# Altium integrated library NSC Switcher.IntLib: 2027 symbols (part 31 of 54)
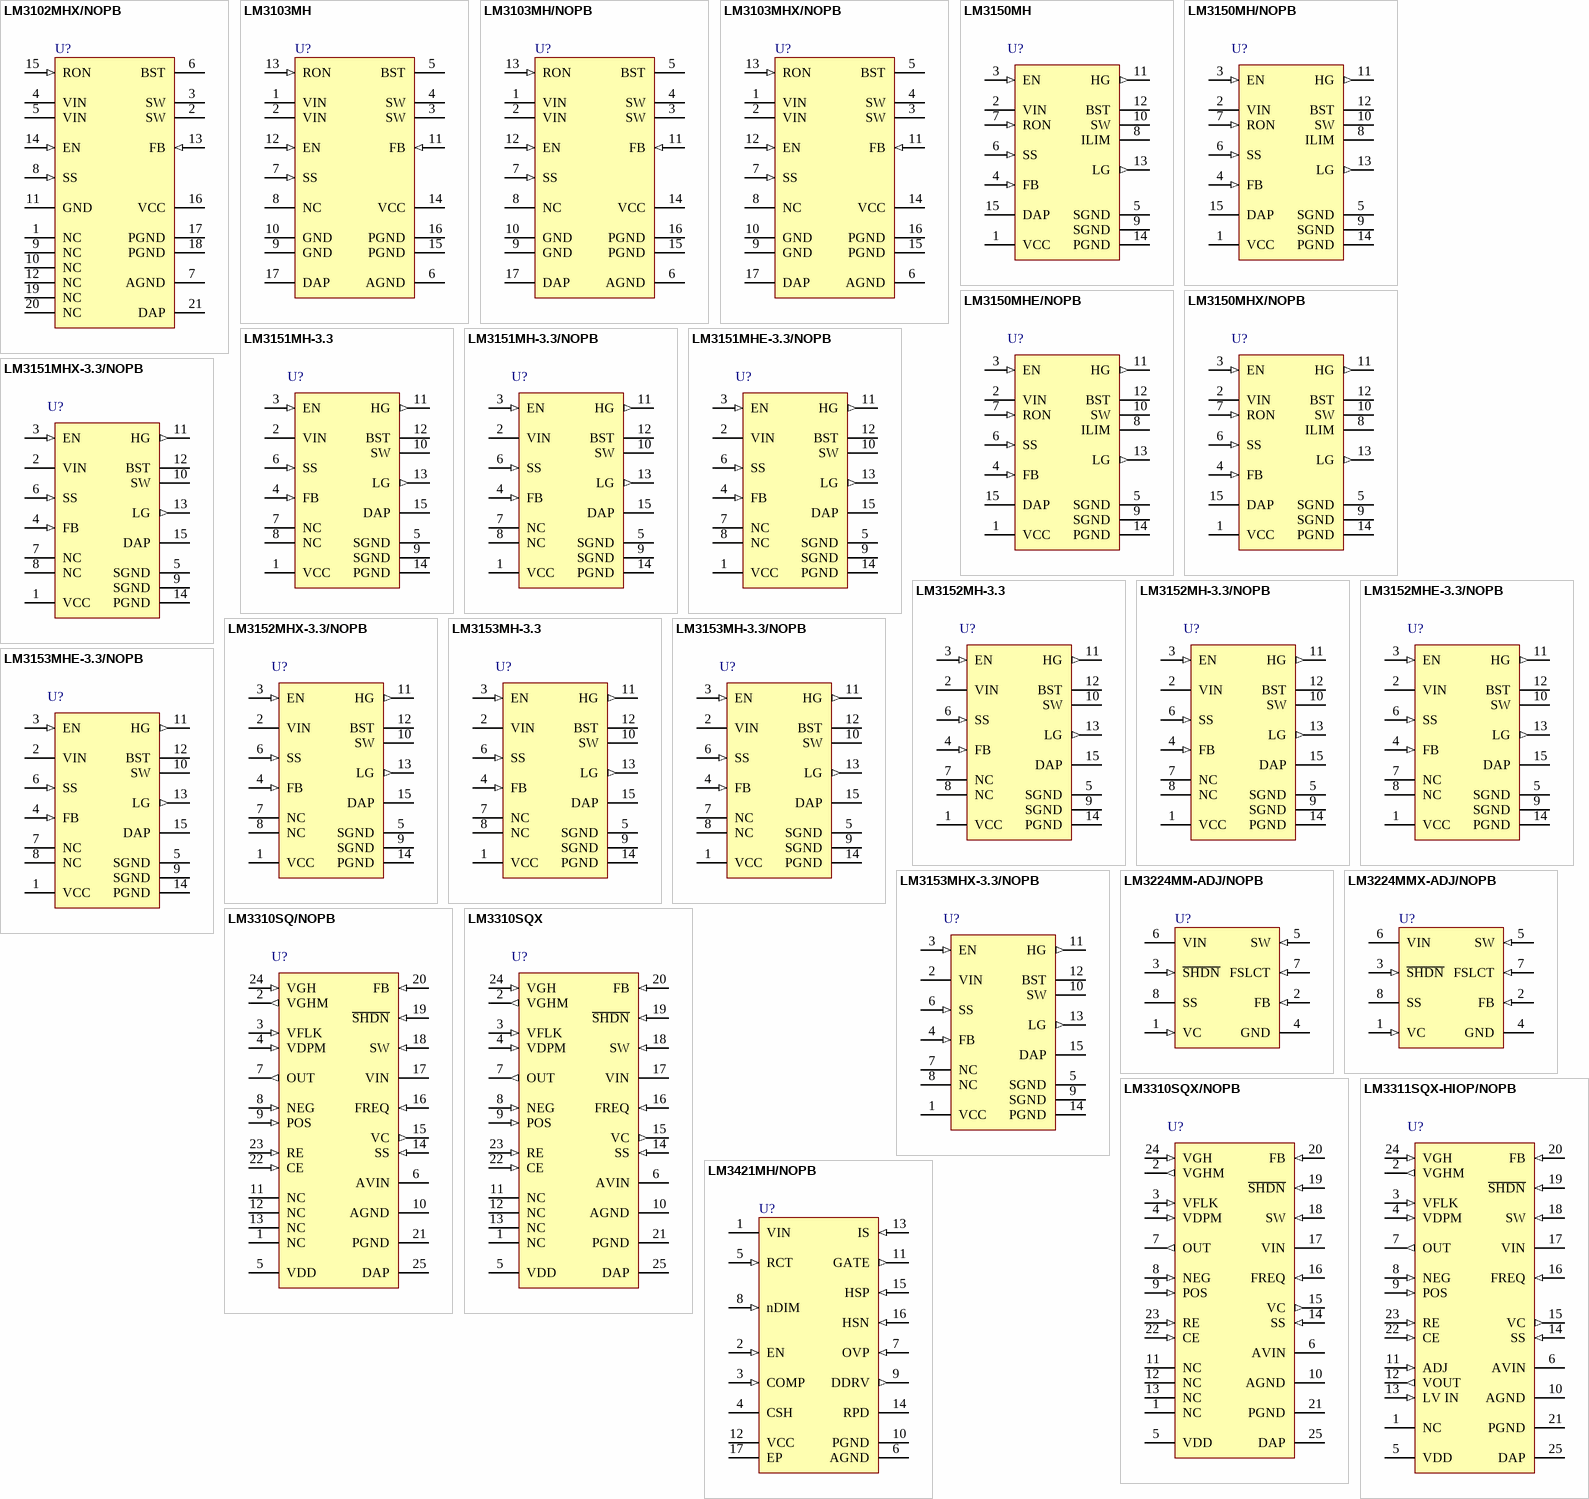
[diagram p93: symbols LM3102MHX/NOPB to LM3421MH/NOPB]

## LM3150MHE/NOPB
designator U?
SIMPLE SWITCHER® CONTROLLER, 42V Synchronous Step-Down, 14-pin TSSOP-EP, Pb-Free; PartNumber: LM3150MHE/NOPB; Manufacturer: National Semiconductor; PackageTopMarking: NSUZXYTT*LM3150*MH; PowerWise: Y; Published: 1-Mar-2010; DatasheetVersion: Oct-2008; PackageVersion: revA, Feb-2003; PackageReference: MXA14A; Publisher: Altium Limited; PackageDescription: Molded TSSOP, JEDEC, Exposed Pad, 5.0 x 4.4 x 0.9mm Body, 14 Lead, 0.65mm Pitch; Supplier 1: Digi-Key; Supplier Part Number 1: LM3150MHETR-ND; Supplier 2: Digi-Key; Supplier Part Number 2: LM3150MHECT-ND; Supplier 3: Digi-Key; Supplier Part Number 3: LM3150MHEDKR-ND; Supplier 4: Farnell; Supplier Part Number 4: 1670579; RoHS: Y; PinCount: 14; CompType: Switcher; Code_JEDEC: MO-153-ABT-1; ComponentLink1Description: LM3150 Datasheet; ComponentLink1URL: http://www.national.com/ds/LM/LM3150.pdf; ComponentLink2Description: LM3150 Web Page; ComponentLink2URL: http://www.national.com/pf/LM/LM3150.html; ComponentLink3Description: MXA14A Package Page; ComponentLink3URL: http://www.national.com/packaging/folders/mxa14a.html
footprint MXA14A_N (TSOP, 14-Leads, Body 5x4.4mm, Pitch 0.65mm, Exposed Pad, IPC Medium Density)
footprint MXA14A_L (TSOP, 14-Leads, Body 5x4.4mm, Pitch 0.65mm, Exposed Pad, IPC High Density)
footprint MXA14A_M (TSOP, 14-Leads, Body 5x4.4mm, Pitch 0.65mm, Exposed Pad, IPC Low Density)
pins: 1 VCC (power), 2 VIN (power), 3 EN (in), 4 FB (in), 5 SGND (power), 6 SS (in), 7 RON (in), 8 ILIM, 9 SGND (power), 10 SW (power), 11 HG (out), 12 BST, 13 LG (out), 14 PGND (power), 15 DAP (power)

## LM3150MHX/NOPB
designator U?
SIMPLE SWITCHER® CONTROLLER, 42V Synchronous Step-Down, 14-pin TSSOP-EP, Pb-Free; PartNumber: LM3150MHX/NOPB; Manufacturer: National Semiconductor; PackageTopMarking: NSUZXYTT*LM3150*MH; PowerWise: Y; Published: 1-Mar-2010; DatasheetVersion: Oct-2008; PackageVersion: revA, Feb-2003; PackageReference: MXA14A; Publisher: Altium Limited; PackageDescription: Molded TSSOP, JEDEC, Exposed Pad, 5.0 x 4.4 x 0.9mm Body, 14 Lead, 0.65mm Pitch; Supplier 1: Digi-Key; Supplier Part Number 1: LM3150MHX-ND; RoHS: Y; PinCount: 14; CompType: Switcher; Code_JEDEC: MO-153-ABT-1; ComponentLink1Description: LM3150 Datasheet; ComponentLink1URL: http://www.national.com/ds/LM/LM3150.pdf; ComponentLink2Description: LM3150 Web Page; ComponentLink2URL: http://www.national.com/pf/LM/LM3150.html; ComponentLink3Description: MXA14A Package Page; ComponentLink3URL: http://www.national.com/packaging/folders/mxa14a.html
footprint MXA14A_N (TSOP, 14-Leads, Body 5x4.4mm, Pitch 0.65mm, Exposed Pad, IPC Medium Density)
footprint MXA14A_L (TSOP, 14-Leads, Body 5x4.4mm, Pitch 0.65mm, Exposed Pad, IPC High Density)
footprint MXA14A_M (TSOP, 14-Leads, Body 5x4.4mm, Pitch 0.65mm, Exposed Pad, IPC Low Density)
pins: 1 VCC (power), 2 VIN (power), 3 EN (in), 4 FB (in), 5 SGND (power), 6 SS (in), 7 RON (in), 8 ILIM, 9 SGND (power), 10 SW (power), 11 HG (out), 12 BST, 13 LG (out), 14 PGND (power), 15 DAP (power)

## LM3151MH-3.3
designator U?
SIMPLE SWITCHER® CONTROLLER, 42V Synchronous Step-Down, 14-pin TSSOP-EP; PartNumber: LM3151MH-3.3; Manufacturer: National Semiconductor; PackageTopMarking: NSUZXYTT*LM3151*-3.3; PowerWise: Y; Published: 4-Dec-2008; DatasheetVersion: Oct-2008; PackageVersion: revA, Feb-2003; PackageReference: MXA14A; Publisher: Altium Limited; PackageDescription: Molded TSSOP, JEDEC, Exposed Pad, 5.0 x 4.4 x 0.9mm Body, 14 Lead, 0.65mm Pitch; RoHS: Y; PinCount: 14; CompType: Switcher; Code_JEDEC: MO-153-ABT-1; ComponentLink1Description: LM3151 Datasheet; ComponentLink1URL: http://www.national.com/ds/LM/LM3151.pdf; ComponentLink2Description: LM3151 Web Page; ComponentLink2URL: http://www.national.com/pf/LM/LM3151.html; ComponentLink3Description: MXA14A Package Page; ComponentLink3URL: http://www.national.com/packaging/folders/mxa14a.html
footprint MXA14A_N (TSOP, 14-Leads, Body 5x4.4mm, Pitch 0.65mm, Exposed Pad, IPC Medium Density)
footprint MXA14A_L (TSOP, 14-Leads, Body 5x4.4mm, Pitch 0.65mm, Exposed Pad, IPC High Density)
footprint MXA14A_M (TSOP, 14-Leads, Body 5x4.4mm, Pitch 0.65mm, Exposed Pad, IPC Low Density)
pins: 1 VCC (power), 2 VIN (power), 3 EN (in), 4 FB (in), 5 SGND (power), 6 SS (in), 7 NC, 8 NC, 9 SGND (power), 10 SW (power), 11 HG (out), 12 BST, 13 LG (out), 14 PGND (power), 15 DAP (power)

## LM3151MH-3.3/NOPB
designator U?
SIMPLE SWITCHER® CONTROLLER, 42V Synchronous Step-Down, 14-pin TSSOP-EP, Pb-Free; PartNumber: LM3151MH-3.3/NOPB; Manufacturer: National Semiconductor; PackageTopMarking: NSUZXYTT*LM3151*-3.3; PowerWise: Y; Published: 1-Mar-2010; DatasheetVersion: Oct-2008; PackageVersion: revA, Feb-2003; PackageReference: MXA14A; Publisher: Altium Limited; PackageDescription: Molded TSSOP, JEDEC, Exposed Pad, 5.0 x 4.4 x 0.9mm Body, 14 Lead, 0.65mm Pitch; Supplier 1: Digi-Key; Supplier Part Number 1: LM3151MH-3.3-ND; RoHS: Y; PinCount: 14; CompType: Switcher; Code_JEDEC: MO-153-ABT-1; ComponentLink1Description: LM3151 Datasheet; ComponentLink1URL: http://www.national.com/ds/LM/LM3151.pdf; ComponentLink2Description: LM3151 Web Page; ComponentLink2URL: http://www.national.com/pf/LM/LM3151.html; ComponentLink3Description: MXA14A Package Page; ComponentLink3URL: http://www.national.com/packaging/folders/mxa14a.html
footprint MXA14A_N (TSOP, 14-Leads, Body 5x4.4mm, Pitch 0.65mm, Exposed Pad, IPC Medium Density)
footprint MXA14A_L (TSOP, 14-Leads, Body 5x4.4mm, Pitch 0.65mm, Exposed Pad, IPC High Density)
footprint MXA14A_M (TSOP, 14-Leads, Body 5x4.4mm, Pitch 0.65mm, Exposed Pad, IPC Low Density)
pins: 1 VCC (power), 2 VIN (power), 3 EN (in), 4 FB (in), 5 SGND (power), 6 SS (in), 7 NC, 8 NC, 9 SGND (power), 10 SW (power), 11 HG (out), 12 BST, 13 LG (out), 14 PGND (power), 15 DAP (power)

## LM3151MHE-3.3/NOPB
designator U?
SIMPLE SWITCHER® CONTROLLER, 42V Synchronous Step-Down, 14-pin TSSOP-EP, Pb-Free; PartNumber: LM3151MHE-3.3/NOPB; Manufacturer: National Semiconductor; PackageTopMarking: NSUZXYTT*LM3151*-3.3; PowerWise: Y; Published: 1-Mar-2010; DatasheetVersion: Oct-2008; PackageVersion: revA, Feb-2003; PackageReference: MXA14A; Publisher: Altium Limited; PackageDescription: Molded TSSOP, JEDEC, Exposed Pad, 5.0 x 4.4 x 0.9mm Body, 14 Lead, 0.65mm Pitch; Supplier 1: Digi-Key; Supplier Part Number 1: LM3151MHE-3.3TR-ND; Supplier 2: Digi-Key; Supplier Part Number 2: LM3151MHE-3.3CT-ND; Supplier 3: Digi-Key; Supplier Part Number 3: LM3151MHE-3.3DKR-ND; Supplier 4: Farnell; Supplier Part Number 4: 1670581; RoHS: Y; PinCount: 14; CompType: Switcher; Code_JEDEC: MO-153-ABT-1; ComponentLink1Description: LM3151 Datasheet; ComponentLink1URL: http://www.national.com/ds/LM/LM3151.pdf; ComponentLink2Description: LM3151 Web Page; ComponentLink2URL: http://www.national.com/pf/LM/LM3151.html; ComponentLink3Description: MXA14A Package Page; ComponentLink3URL: http://www.national.com/packaging/folders/mxa14a.html
footprint MXA14A_N (TSOP, 14-Leads, Body 5x4.4mm, Pitch 0.65mm, Exposed Pad, IPC Medium Density)
footprint MXA14A_L (TSOP, 14-Leads, Body 5x4.4mm, Pitch 0.65mm, Exposed Pad, IPC High Density)
footprint MXA14A_M (TSOP, 14-Leads, Body 5x4.4mm, Pitch 0.65mm, Exposed Pad, IPC Low Density)
pins: 1 VCC (power), 2 VIN (power), 3 EN (in), 4 FB (in), 5 SGND (power), 6 SS (in), 7 NC, 8 NC, 9 SGND (power), 10 SW (power), 11 HG (out), 12 BST, 13 LG (out), 14 PGND (power), 15 DAP (power)

## LM3151MHX-3.3/NOPB
designator U?
SIMPLE SWITCHER® CONTROLLER, 42V Synchronous Step-Down, 14-pin TSSOP-EP, Pb-Free; PartNumber: LM3151MHX-3.3/NOPB; Manufacturer: National Semiconductor; PackageTopMarking: NSUZXYTT*LM3151*-3.3; PowerWise: Y; Published: 1-Mar-2010; DatasheetVersion: Oct-2008; PackageVersion: revA, Feb-2003; PackageReference: MXA14A; Publisher: Altium Limited; PackageDescription: Molded TSSOP, JEDEC, Exposed Pad, 5.0 x 4.4 x 0.9mm Body, 14 Lead, 0.65mm Pitch; Supplier 1: Digi-Key; Supplier Part Number 1: LM3151MHX-3.3-ND; RoHS: Y; PinCount: 14; CompType: Switcher; Code_JEDEC: MO-153-ABT-1; ComponentLink1Description: LM3151 Datasheet; ComponentLink1URL: http://www.national.com/ds/LM/LM3151.pdf; ComponentLink2Description: LM3151 Web Page; ComponentLink2URL: http://www.national.com/pf/LM/LM3151.html; ComponentLink3Description: MXA14A Package Page; ComponentLink3URL: http://www.national.com/packaging/folders/mxa14a.html
footprint MXA14A_N (TSOP, 14-Leads, Body 5x4.4mm, Pitch 0.65mm, Exposed Pad, IPC Medium Density)
footprint MXA14A_L (TSOP, 14-Leads, Body 5x4.4mm, Pitch 0.65mm, Exposed Pad, IPC High Density)
footprint MXA14A_M (TSOP, 14-Leads, Body 5x4.4mm, Pitch 0.65mm, Exposed Pad, IPC Low Density)
pins: 1 VCC (power), 2 VIN (power), 3 EN (in), 4 FB (in), 5 SGND (power), 6 SS (in), 7 NC, 8 NC, 9 SGND (power), 10 SW (power), 11 HG (out), 12 BST, 13 LG (out), 14 PGND (power), 15 DAP (power)

## LM3152MH-3.3
designator U?
SIMPLE SWITCHER® CONTROLLER, 42V Synchronous Step-Down, 14-pin TSSOP-EP; PartNumber: LM3152MH-3.3; Manufacturer: National Semiconductor; PackageTopMarking: NSUZXYTT*LM3152*-3.3; PowerWise: Y; Published: 4-Dec-2008; DatasheetVersion: Oct-2008; PackageVersion: revA, Feb-2003; PackageReference: MXA14A; Publisher: Altium Limited; PackageDescription: Molded TSSOP, JEDEC, Exposed Pad, 5.0 x 4.4 x 0.9mm Body, 14 Lead, 0.65mm Pitch; RoHS: Y; PinCount: 14; CompType: Switcher; Code_JEDEC: MO-153-ABT-1; ComponentLink1Description: LM3152 Datasheet; ComponentLink1URL: http://www.national.com/ds/LM/LM3152.pdf; ComponentLink2Description: LM3152 Web Page; ComponentLink2URL: http://www.national.com/pf/LM/LM3152.html; ComponentLink3Description: MXA14A Package Page; ComponentLink3URL: http://www.national.com/packaging/folders/mxa14a.html
footprint MXA14A_N (TSOP, 14-Leads, Body 5x4.4mm, Pitch 0.65mm, Exposed Pad, IPC Medium Density)
footprint MXA14A_L (TSOP, 14-Leads, Body 5x4.4mm, Pitch 0.65mm, Exposed Pad, IPC High Density)
footprint MXA14A_M (TSOP, 14-Leads, Body 5x4.4mm, Pitch 0.65mm, Exposed Pad, IPC Low Density)
pins: 1 VCC (power), 2 VIN (power), 3 EN (in), 4 FB (in), 5 SGND (power), 6 SS (in), 7 NC, 8 NC, 9 SGND (power), 10 SW (power), 11 HG (out), 12 BST, 13 LG (out), 14 PGND (power), 15 DAP (power)

## LM3152MH-3.3/NOPB
designator U?
SIMPLE SWITCHER® CONTROLLER, 42V Synchronous Step-Down, 14-pin TSSOP-EP, Pb-Free; PartNumber: LM3152MH-3.3/NOPB; Manufacturer: National Semiconductor; PackageTopMarking: NSUZXYTT*LM3152*-3.3; PowerWise: Y; Published: 1-Mar-2010; DatasheetVersion: Oct-2008; PackageVersion: revA, Feb-2003; PackageReference: MXA14A; Publisher: Altium Limited; PackageDescription: Molded TSSOP, JEDEC, Exposed Pad, 5.0 x 4.4 x 0.9mm Body, 14 Lead, 0.65mm Pitch; Supplier 1: Digi-Key; Supplier Part Number 1: LM3152MH-3.3-ND; RoHS: Y; PinCount: 14; CompType: Switcher; Code_JEDEC: MO-153-ABT-1; ComponentLink1Description: LM3152 Datasheet; ComponentLink1URL: http://www.national.com/ds/LM/LM3152.pdf; ComponentLink2Description: LM3152 Web Page; ComponentLink2URL: http://www.national.com/pf/LM/LM3152.html; ComponentLink3Description: MXA14A Package Page; ComponentLink3URL: http://www.national.com/packaging/folders/mxa14a.html
footprint MXA14A_N (TSOP, 14-Leads, Body 5x4.4mm, Pitch 0.65mm, Exposed Pad, IPC Medium Density)
footprint MXA14A_L (TSOP, 14-Leads, Body 5x4.4mm, Pitch 0.65mm, Exposed Pad, IPC High Density)
footprint MXA14A_M (TSOP, 14-Leads, Body 5x4.4mm, Pitch 0.65mm, Exposed Pad, IPC Low Density)
pins: 1 VCC (power), 2 VIN (power), 3 EN (in), 4 FB (in), 5 SGND (power), 6 SS (in), 7 NC, 8 NC, 9 SGND (power), 10 SW (power), 11 HG (out), 12 BST, 13 LG (out), 14 PGND (power), 15 DAP (power)

## LM3152MHE-3.3/NOPB
designator U?
SIMPLE SWITCHER® CONTROLLER, 42V Synchronous Step-Down, 14-pin TSSOP-EP, Pb-Free; PartNumber: LM3152MHE-3.3/NOPB; Manufacturer: National Semiconductor; PackageTopMarking: NSUZXYTT*LM3152*-3.3; PowerWise: Y; Published: 1-Mar-2010; DatasheetVersion: Oct-2008; PackageVersion: revA, Feb-2003; PackageReference: MXA14A; Publisher: Altium Limited; PackageDescription: Molded TSSOP, JEDEC, Exposed Pad, 5.0 x 4.4 x 0.9mm Body, 14 Lead, 0.65mm Pitch; Supplier 1: Digi-Key; Supplier Part Number 1: LM3152MHE-3.3TR-ND; Supplier 2: Digi-Key; Supplier Part Number 2: LM3152MHE-3.3CT-ND; Supplier 3: Digi-Key; Supplier Part Number 3: LM3152MHE-3.3DKR-ND; Supplier 4: Farnell; Supplier Part Number 4: 1670582; RoHS: Y; PinCount: 14; CompType: Switcher; Code_JEDEC: MO-153-ABT-1; ComponentLink1Description: LM3152 Datasheet; ComponentLink1URL: http://www.national.com/ds/LM/LM3152.pdf; ComponentLink2Description: LM3152 Web Page; ComponentLink2URL: http://www.national.com/pf/LM/LM3152.html; ComponentLink3Description: MXA14A Package Page; ComponentLink3URL: http://www.national.com/packaging/folders/mxa14a.html
footprint MXA14A_N (TSOP, 14-Leads, Body 5x4.4mm, Pitch 0.65mm, Exposed Pad, IPC Medium Density)
footprint MXA14A_L (TSOP, 14-Leads, Body 5x4.4mm, Pitch 0.65mm, Exposed Pad, IPC High Density)
footprint MXA14A_M (TSOP, 14-Leads, Body 5x4.4mm, Pitch 0.65mm, Exposed Pad, IPC Low Density)
pins: 1 VCC (power), 2 VIN (power), 3 EN (in), 4 FB (in), 5 SGND (power), 6 SS (in), 7 NC, 8 NC, 9 SGND (power), 10 SW (power), 11 HG (out), 12 BST, 13 LG (out), 14 PGND (power), 15 DAP (power)

## LM3152MHX-3.3/NOPB
designator U?
SIMPLE SWITCHER® CONTROLLER, 42V Synchronous Step-Down, 14-pin TSSOP-EP, Pb-Free; PartNumber: LM3152MHX-3.3/NOPB; Manufacturer: National Semiconductor; PackageTopMarking: NSUZXYTT*LM3152*-3.3; PowerWise: Y; Published: 1-Mar-2010; DatasheetVersion: Oct-2008; PackageVersion: revA, Feb-2003; PackageReference: MXA14A; Publisher: Altium Limited; PackageDescription: Molded TSSOP, JEDEC, Exposed Pad, 5.0 x 4.4 x 0.9mm Body, 14 Lead, 0.65mm Pitch; Supplier 1: Digi-Key; Supplier Part Number 1: LM3152MHX-3.3-ND; RoHS: Y; PinCount: 14; CompType: Switcher; Code_JEDEC: MO-153-ABT-1; ComponentLink1Description: LM3152 Datasheet; ComponentLink1URL: http://www.national.com/ds/LM/LM3152.pdf; ComponentLink2Description: LM3152 Web Page; ComponentLink2URL: http://www.national.com/pf/LM/LM3152.html; ComponentLink3Description: MXA14A Package Page; ComponentLink3URL: http://www.national.com/packaging/folders/mxa14a.html
footprint MXA14A_N (TSOP, 14-Leads, Body 5x4.4mm, Pitch 0.65mm, Exposed Pad, IPC Medium Density)
footprint MXA14A_L (TSOP, 14-Leads, Body 5x4.4mm, Pitch 0.65mm, Exposed Pad, IPC High Density)
footprint MXA14A_M (TSOP, 14-Leads, Body 5x4.4mm, Pitch 0.65mm, Exposed Pad, IPC Low Density)
pins: 1 VCC (power), 2 VIN (power), 3 EN (in), 4 FB (in), 5 SGND (power), 6 SS (in), 7 NC, 8 NC, 9 SGND (power), 10 SW (power), 11 HG (out), 12 BST, 13 LG (out), 14 PGND (power), 15 DAP (power)

## LM3153MH-3.3
designator U?
SIMPLE SWITCHER® CONTROLLER, 42V Synchronous Step-Down, 14-pin TSSOP-EP; PartNumber: LM3153MH-3.3; Manufacturer: National Semiconductor; PackageTopMarking: NSUZXYTT*LM3153*-3.3; PowerWise: Y; Published: 4-Dec-2008; DatasheetVersion: Oct-2008; PackageVersion: revA, Feb-2003; PackageReference: MXA14A; Publisher: Altium Limited; PackageDescription: Molded TSSOP, JEDEC, Exposed Pad, 5.0 x 4.4 x 0.9mm Body, 14 Lead, 0.65mm Pitch; RoHS: Y; PinCount: 14; CompType: Switcher; Code_JEDEC: MO-153-ABT-1; ComponentLink1Description: LM3153 Datasheet; ComponentLink1URL: http://www.national.com/ds/LM/LM3153.pdf; ComponentLink2Description: LM3153 Web Page; ComponentLink2URL: http://www.national.com/pf/LM/LM3153.html; ComponentLink3Description: MXA14A Package Page; ComponentLink3URL: http://www.national.com/packaging/folders/mxa14a.html
footprint MXA14A_N (TSOP, 14-Leads, Body 5x4.4mm, Pitch 0.65mm, Exposed Pad, IPC Medium Density)
footprint MXA14A_L (TSOP, 14-Leads, Body 5x4.4mm, Pitch 0.65mm, Exposed Pad, IPC High Density)
footprint MXA14A_M (TSOP, 14-Leads, Body 5x4.4mm, Pitch 0.65mm, Exposed Pad, IPC Low Density)
pins: 1 VCC (power), 2 VIN (power), 3 EN (in), 4 FB (in), 5 SGND (power), 6 SS (in), 7 NC, 8 NC, 9 SGND (power), 10 SW (power), 11 HG (out), 12 BST, 13 LG (out), 14 PGND (power), 15 DAP (power)

## LM3153MH-3.3/NOPB
designator U?
SIMPLE SWITCHER® CONTROLLER, 42V Synchronous Step-Down, 14-pin TSSOP-EP, Pb-Free; PartNumber: LM3153MH-3.3/NOPB; Manufacturer: National Semiconductor; PackageTopMarking: NSUZXYTT*LM3153*-3.3; PowerWise: Y; Published: 1-Mar-2010; DatasheetVersion: Oct-2008; PackageVersion: revA, Feb-2003; PackageReference: MXA14A; Publisher: Altium Limited; PackageDescription: Molded TSSOP, JEDEC, Exposed Pad, 5.0 x 4.4 x 0.9mm Body, 14 Lead, 0.65mm Pitch; Supplier 1: Digi-Key; Supplier Part Number 1: LM3153MH-3.3-ND; RoHS: Y; PinCount: 14; CompType: Switcher; Code_JEDEC: MO-153-ABT-1; ComponentLink1Description: LM3153 Datasheet; ComponentLink1URL: http://www.national.com/ds/LM/LM3153.pdf; ComponentLink2Description: LM3153 Web Page; ComponentLink2URL: http://www.national.com/pf/LM/LM3153.html; ComponentLink3Description: MXA14A Package Page; ComponentLink3URL: http://www.national.com/packaging/folders/mxa14a.html
footprint MXA14A_N (TSOP, 14-Leads, Body 5x4.4mm, Pitch 0.65mm, Exposed Pad, IPC Medium Density)
footprint MXA14A_L (TSOP, 14-Leads, Body 5x4.4mm, Pitch 0.65mm, Exposed Pad, IPC High Density)
footprint MXA14A_M (TSOP, 14-Leads, Body 5x4.4mm, Pitch 0.65mm, Exposed Pad, IPC Low Density)
pins: 1 VCC (power), 2 VIN (power), 3 EN (in), 4 FB (in), 5 SGND (power), 6 SS (in), 7 NC, 8 NC, 9 SGND (power), 10 SW (power), 11 HG (out), 12 BST, 13 LG (out), 14 PGND (power), 15 DAP (power)

## LM3153MHE-3.3/NOPB
designator U?
SIMPLE SWITCHER® CONTROLLER, 42V Synchronous Step-Down, 14-pin TSSOP-EP, Pb-Free; PartNumber: LM3153MHE-3.3/NOPB; Manufacturer: National Semiconductor; PackageTopMarking: NSUZXYTT*LM3153*-3.3; PowerWise: Y; Published: 1-Mar-2010; DatasheetVersion: Oct-2008; PackageVersion: revA, Feb-2003; PackageReference: MXA14A; Publisher: Altium Limited; PackageDescription: Molded TSSOP, JEDEC, Exposed Pad, 5.0 x 4.4 x 0.9mm Body, 14 Lead, 0.65mm Pitch; Supplier 1: Digi-Key; Supplier Part Number 1: LM3153MHE-3.3TR-ND; Supplier 2: Digi-Key; Supplier Part Number 2: LM3153MHE-3.3CT-ND; Supplier 3: Digi-Key; Supplier Part Number 3: LM3153MHE-3.3DKR-ND; RoHS: Y; PinCount: 14; CompType: Switcher; Code_JEDEC: MO-153-ABT-1; ComponentLink1Description: LM3153 Datasheet; ComponentLink1URL: http://www.national.com/ds/LM/LM3153.pdf; ComponentLink2Description: LM3153 Web Page; ComponentLink2URL: http://www.national.com/pf/LM/LM3153.html; ComponentLink3Description: MXA14A Package Page; ComponentLink3URL: http://www.national.com/packaging/folders/mxa14a.html
footprint MXA14A_N (TSOP, 14-Leads, Body 5x4.4mm, Pitch 0.65mm, Exposed Pad, IPC Medium Density)
footprint MXA14A_L (TSOP, 14-Leads, Body 5x4.4mm, Pitch 0.65mm, Exposed Pad, IPC High Density)
footprint MXA14A_M (TSOP, 14-Leads, Body 5x4.4mm, Pitch 0.65mm, Exposed Pad, IPC Low Density)
pins: 1 VCC (power), 2 VIN (power), 3 EN (in), 4 FB (in), 5 SGND (power), 6 SS (in), 7 NC, 8 NC, 9 SGND (power), 10 SW (power), 11 HG (out), 12 BST, 13 LG (out), 14 PGND (power), 15 DAP (power)

## LM3153MHX-3.3/NOPB
designator U?
SIMPLE SWITCHER® CONTROLLER, 42V Synchronous Step-Down, 14-pin TSSOP-EP, Pb-Free; PartNumber: LM3153MHX-3.3/NOPB; Manufacturer: National Semiconductor; PackageTopMarking: NSUZXYTT*LM3153*-3.3; PowerWise: Y; Published: 1-Mar-2010; DatasheetVersion: Oct-2008; PackageVersion: revA, Feb-2003; PackageReference: MXA14A; Publisher: Altium Limited; PackageDescription: Molded TSSOP, JEDEC, Exposed Pad, 5.0 x 4.4 x 0.9mm Body, 14 Lead, 0.65mm Pitch; Supplier 1: Digi-Key; Supplier Part Number 1: LM3153MHX-3.3-ND; RoHS: Y; PinCount: 14; CompType: Switcher; Code_JEDEC: MO-153-ABT-1; ComponentLink1Description: LM3153 Datasheet; ComponentLink1URL: http://www.national.com/ds/LM/LM3153.pdf; ComponentLink2Description: LM3153 Web Page; ComponentLink2URL: http://www.national.com/pf/LM/LM3153.html; ComponentLink3Description: MXA14A Package Page; ComponentLink3URL: http://www.national.com/packaging/folders/mxa14a.html
footprint MXA14A_N (TSOP, 14-Leads, Body 5x4.4mm, Pitch 0.65mm, Exposed Pad, IPC Medium Density)
footprint MXA14A_L (TSOP, 14-Leads, Body 5x4.4mm, Pitch 0.65mm, Exposed Pad, IPC High Density)
footprint MXA14A_M (TSOP, 14-Leads, Body 5x4.4mm, Pitch 0.65mm, Exposed Pad, IPC Low Density)
pins: 1 VCC (power), 2 VIN (power), 3 EN (in), 4 FB (in), 5 SGND (power), 6 SS (in), 7 NC, 8 NC, 9 SGND (power), 10 SW (power), 11 HG (out), 12 BST, 13 LG (out), 14 PGND (power), 15 DAP (power)

## LM3224MM-ADJ/NOPB
designator U?
615kHz/1.25MHz Step-up PWM DC/DC Converter, 8-pin MSOP, Pb-Free; PartNumber: LM3224MM-ADJ/NOPB; Manufacturer: National Semiconductor; PackageTopMarking: ZXTT*SEKB; PowerWise: N; CompType: Switcher; Published: 1-Mar-2010; DatasheetVersion: Sep-2005; PackageVersion: revF, Apr-2008; PackageReference: MUA08A; Publisher: Altium Limited; PackageDescription: MINI SOIC, .118 x .118 x .034in, 8 Lead, .0256in Pitch; Supplier 1: Digi-Key; Supplier Part Number 1: LM3224MM-ADJTR-ND; Supplier 2: Digi-Key; Supplier Part Number 2: LM3224MM-ADJCT-ND; Supplier 3: Digi-Key; Supplier Part Number 3: LM3224MM-ADJDKR-ND; Supplier 4: Farnell; Supplier Part Number 4: 1559444; RoHS: Y; PinCount: 8; Code_JEDEC: MO-187-AA; ComponentLink1Description: LM3224 Datasheet; ComponentLink1URL: http://www.national.com/ds/LM/LM3224.pdf; ComponentLink2Description: LM3224 Web Page; ComponentLink2URL: http://www.national.com/pf/LM/LM3224.html; ComponentLink3Description: MUA08A Package Page; ComponentLink3URL: http://www.national.com/packaging/folders/mua08a.html
footprint MUA08A_N (TSOP, 8-Leads, Body 3x3mm, Pitch 0.65mm, IPC Medium Density)
footprint MUA08A_L (TSOP, 8-Leads, Body 3x3mm, Pitch 0.65mm, IPC High Density)
footprint MUA08A_M (TSOP, 8-Leads, Body 3x3mm, Pitch 0.65mm, IPC Low Density)
pins: 1 VC (in), 2 FB (in), 3 ~{SHDN} (in), 4 GND (power), 5 SW (in), 6 VIN (power), 7 FSLCT (in), 8 SS

## LM3224MMX-ADJ/NOPB
designator U?
615kHz/1.25MHz Step-up PWM DC/DC Converter, 8-pin MSOP, Pb-Free; PartNumber: LM3224MMX-ADJ/NOPB; Manufacturer: National Semiconductor; PackageTopMarking: ZXTT*SEKB; PowerWise: N; CompType: Switcher; Published: 1-Mar-2010; DatasheetVersion: Sep-2005; PackageVersion: revF, Apr-2008; PackageReference: MUA08A; Publisher: Altium Limited; PackageDescription: MINI SOIC, .118 x .118 x .034in, 8 Lead, .0256in Pitch; Supplier 1: Digi-Key; Supplier Part Number 1: LM3224MMX-ADJ-ND; RoHS: Y; PinCount: 8; Code_JEDEC: MO-187-AA; ComponentLink1Description: LM3224 Datasheet; ComponentLink1URL: http://www.national.com/ds/LM/LM3224.pdf; ComponentLink2Description: LM3224 Web Page; ComponentLink2URL: http://www.national.com/pf/LM/LM3224.html; ComponentLink3Description: MUA08A Package Page; ComponentLink3URL: http://www.national.com/packaging/folders/mua08a.html
footprint MUA08A_N (TSOP, 8-Leads, Body 3x3mm, Pitch 0.65mm, IPC Medium Density)
footprint MUA08A_L (TSOP, 8-Leads, Body 3x3mm, Pitch 0.65mm, IPC High Density)
footprint MUA08A_M (TSOP, 8-Leads, Body 3x3mm, Pitch 0.65mm, IPC Low Density)
pins: 1 VC (in), 2 FB (in), 3 ~{SHDN} (in), 4 GND (power), 5 SW (in), 6 VIN (power), 7 FSLCT (in), 8 SS

## LM3310SQ/NOPB
designator U?
Step-Up PWM DC/DC Converter with Integrated Op-Amp and Gate Pulse Modulation Switch, 24-pin LLP, Pb-Free; PartNumber: LM3310SQ/NOPB; Manufacturer: National Semiconductor; PackageTopMarking: NS*UZXYTT*L3310SQ; PowerWise: N; CompType: Switcher; Published: 1-Mar-2010; DatasheetVersion: Nov-2007; PackageVersion: revB, Aug-2003; PackageReference: SQA24A; Publisher: Altium Limited; PackageDescription: LLP, Plastic, Quad, 4 x 4 x 0.8mm Body, 24 Lead, 0.5mm Pitch, No Pullback; Supplier 1: Digi-Key; Supplier Part Number 1: LM3310SQTR-ND; Supplier 2: Digi-Key; Supplier Part Number 2: LM3310SQCT-ND; Supplier 3: Digi-Key; Supplier Part Number 3: LM3310SQDKR-ND; RoHS: Y; PinCount: 24; Code_JEDEC: MO-220-WGGD-6; ComponentLink1Description: LM3310 Datasheet; ComponentLink1URL: http://www.national.com/ds/LM/LM3310.pdf; ComponentLink2Description: LM3310 Web Page; ComponentLink2URL: http://www.national.com/pf/LM/LM3310.html; ComponentLink3Description: SQA24A Package Page; ComponentLink3URL: http://www.national.com/packaging/folders/sqa24a.html
footprint SQA24A (QFN, 24-Leads, Body 4x4mm, Pitch 0.5mm, NSC Recommended)
pins: 1 NC, 2 VGHM (out), 3 VFLK (in), 4 VDPM (in), 5 VDD (power), 6 AVIN (power), 7 OUT (out), 8 NEG (in), 9 POS (in), 10 AGND (power), 11 NC, 12 NC, 13 NC, 14 SS (in), 15 VC (out), 16 FREQ (in), 17 VIN (power), 18 SW (in), 19 ~{SHDN} (in), 20 FB (in), 21 PGND (power), 22 CE (in), 23 RE (in), 24 VGH (in), 25 DAP (power)

## LM3310SQX
designator U?
Step-Up PWM DC/DC Converter with Integrated Op-Amp and Gate Pulse Modulation Switch, 24-pin LLP; PartNumber: LM3310SQX; Manufacturer: National Semiconductor; PackageTopMarking: NS*UZXYTT*L3310SQ; PowerWise: N; CompType: Switcher; Published: 1-Mar-2010; DatasheetVersion: Nov-2007; PackageVersion: revB, Aug-2003; PackageReference: SQA24A; Publisher: Altium Limited; PackageDescription: LLP, Plastic, Quad, 4 x 4 x 0.8mm Body, 24 Lead, 0.5mm Pitch, No Pullback; RoHS: N; PinCount: 24; Code_JEDEC: MO-220-WGGD-6; ComponentLink1Description: LM3310 Datasheet; ComponentLink1URL: http://www.national.com/ds/LM/LM3310.pdf; ComponentLink2Description: LM3310 Web Page; ComponentLink2URL: http://www.national.com/pf/LM/LM3310.html; ComponentLink3Description: SQA24A Package Page; ComponentLink3URL: http://www.national.com/packaging/folders/sqa24a.html
footprint SQA24A (QFN, 24-Leads, Body 4x4mm, Pitch 0.5mm, NSC Recommended)
pins: 1 NC, 2 VGHM (out), 3 VFLK (in), 4 VDPM (in), 5 VDD (power), 6 AVIN (power), 7 OUT (out), 8 NEG (in), 9 POS (in), 10 AGND (power), 11 NC, 12 NC, 13 NC, 14 SS (in), 15 VC (out), 16 FREQ (in), 17 VIN (power), 18 SW (in), 19 ~{SHDN} (in), 20 FB (in), 21 PGND (power), 22 CE (in), 23 RE (in), 24 VGH (in), 25 DAP (power)

## LM3310SQX/NOPB
designator U?
Step-Up PWM DC/DC Converter with Integrated Op-Amp and Gate Pulse Modulation Switch, 24-pin LLP, Pb-Free; PartNumber: LM3310SQX/NOPB; Manufacturer: National Semiconductor; PackageTopMarking: NS*UZXYTT*L3310SQ; PowerWise: N; CompType: Switcher; Published: 1-Mar-2010; DatasheetVersion: Nov-2007; PackageVersion: revB, Aug-2003; PackageReference: SQA24A; Publisher: Altium Limited; PackageDescription: LLP, Plastic, Quad, 4 x 4 x 0.8mm Body, 24 Lead, 0.5mm Pitch, No Pullback; Supplier 1: Digi-Key; Supplier Part Number 1: LM3310SQX-ND; RoHS: Y; PinCount: 24; Code_JEDEC: MO-220-WGGD-6; ComponentLink1Description: LM3310 Datasheet; ComponentLink1URL: http://www.national.com/ds/LM/LM3310.pdf; ComponentLink2Description: LM3310 Web Page; ComponentLink2URL: http://www.national.com/pf/LM/LM3310.html; ComponentLink3Description: SQA24A Package Page; ComponentLink3URL: http://www.national.com/packaging/folders/sqa24a.html
footprint SQA24A (QFN, 24-Leads, Body 4x4mm, Pitch 0.5mm, NSC Recommended)
pins: 1 NC, 2 VGHM (out), 3 VFLK (in), 4 VDPM (in), 5 VDD (power), 6 AVIN (power), 7 OUT (out), 8 NEG (in), 9 POS (in), 10 AGND (power), 11 NC, 12 NC, 13 NC, 14 SS (in), 15 VC (out), 16 FREQ (in), 17 VIN (power), 18 SW (in), 19 ~{SHDN} (in), 20 FB (in), 21 PGND (power), 22 CE (in), 23 RE (in), 24 VGH (in), 25 DAP (power)

## LM3311SQX-HIOP/NOPB
designator U?
Step-Up PWM DC/DC Converter with Integrated LDO, Op-Amp, and Gate Pulse Modulation Switch, 24-pin LLP, Pb-Free; PartNumber: LM3311SQX-HIOP/NOPB; Manufacturer: National Semiconductor; PackageTopMarking: NS*UZXYTT*L3311HP; PowerWise: N; CompType: Switcher; Published: 1-Mar-2010; DatasheetVersion: Nov-2007; PackageVersion: revB, Aug-2003; PackageReference: SQA24A; Publisher: Altium Limited; PackageDescription: LLP, Plastic, Quad, 4 x 4 x 0.8mm Body, 24 Lead, 0.5mm Pitch, No Pullback; Supplier 1: Digi-Key; Supplier Part Number 1: LM3311SQX-HIOP-ND; RoHS: Y; PinCount: 24; Code_JEDEC: MO-220-WGGD-6; ComponentLink1Description: LM3311 Datasheet; ComponentLink1URL: http://www.national.com/ds/LM/LM3311.pdf; ComponentLink2Description: LM3311 Web Page; ComponentLink2URL: http://www.national.com/pf/LM/LM3311.html; ComponentLink3Description: SQA24A Package Page; ComponentLink3URL: http://www.national.com/packaging/folders/sqa24a.html
footprint SQA24A (QFN, 24-Leads, Body 4x4mm, Pitch 0.5mm, NSC Recommended)
pins: 1 NC, 2 VGHM (out), 3 VFLK (in), 4 VDPM (in), 5 VDD (power), 6 AVIN (power), 7 OUT (out), 8 NEG (in), 9 POS (in), 10 AGND (power), 11 ADJ (in), 12 VOUT (out), 13 LV IN (in), 14 SS (in), 15 VC (out), 16 FREQ (in), 17 VIN (power), 18 SW (in), 19 ~{SHDN} (in), 20 FB (in), 21 PGND (power), 22 CE (in), 23 RE (in), 24 VGH (in), 25 DAP (power)

## LM3421MH/NOPB
designator U?
N-Channel Controllers for Constant Current LED Drivers, 16-pin TSSOP-EP, Pb-Free; PartNumber: LM3421MH/NOPB; Manufacturer: National Semiconductor; PackageTopMarking: NSUZXYTT*LM3421*MH; PowerWise: Y; CompType: Switcher; Published: 1-Mar-2010; DatasheetVersion: Jan-2010; PackageVersion: revA, Apr-2003; PackageReference: MXA16A; Publisher: Altium Limited; PackageDescription: Molded TSSOP, Jedec, Exposed Pad, 5.0 x 4.4 x 0.9mm Body,16 Lead, 0.65mm Pitch; Supplier 1: Digi-Key; Supplier Part Number 1: LM3421MH-ND; Supplier 2: Farnell; Supplier Part Number 2: 1632001; RoHS: Y; PinCount: 16; Code_JEDEC: MO-153-ABT; ComponentLink1Description: LM3421 Datasheet; ComponentLink1URL: http://www.national.com/ds/LM/LM3421.pdf; ComponentLink2Description: LM3421 Web Page; ComponentLink2URL: http://www.national.com/pf/LM/LM3421.html; ComponentLink3Description: MXA16A Package Page; ComponentLink3URL: http://www.national.com/packaging/folders/mxa16a.html
footprint MXA16A_N (TSOP, 16-Leads, Body 5x4.4mm, Pitch 0.65mm, Exposed Pad, IPC Medium Density)
footprint MXA16A_L (TSOP, 16-Leads, Body 5x4.4mm, Pitch 0.65mm, Exposed Pad, IPC High Density)
footprint MXA16A_M (TSOP, 16-Leads, Body 5x4.4mm, Pitch 0.65mm, Exposed Pad, IPC Low Density)
pins: 1 VIN (power), 2 EN (in), 3 COMP (in), 4 CSH, 5 RCT (in), 6 AGND (power), 7 OVP (in), 8 nDIM (in), 9 DDRV (out), 10 PGND (power), 11 GATE (out), 12 VCC (power), 13 IS (in), 14 RPD (oc), 15 HSP (in), 16 HSN (in), 17 EP (power)

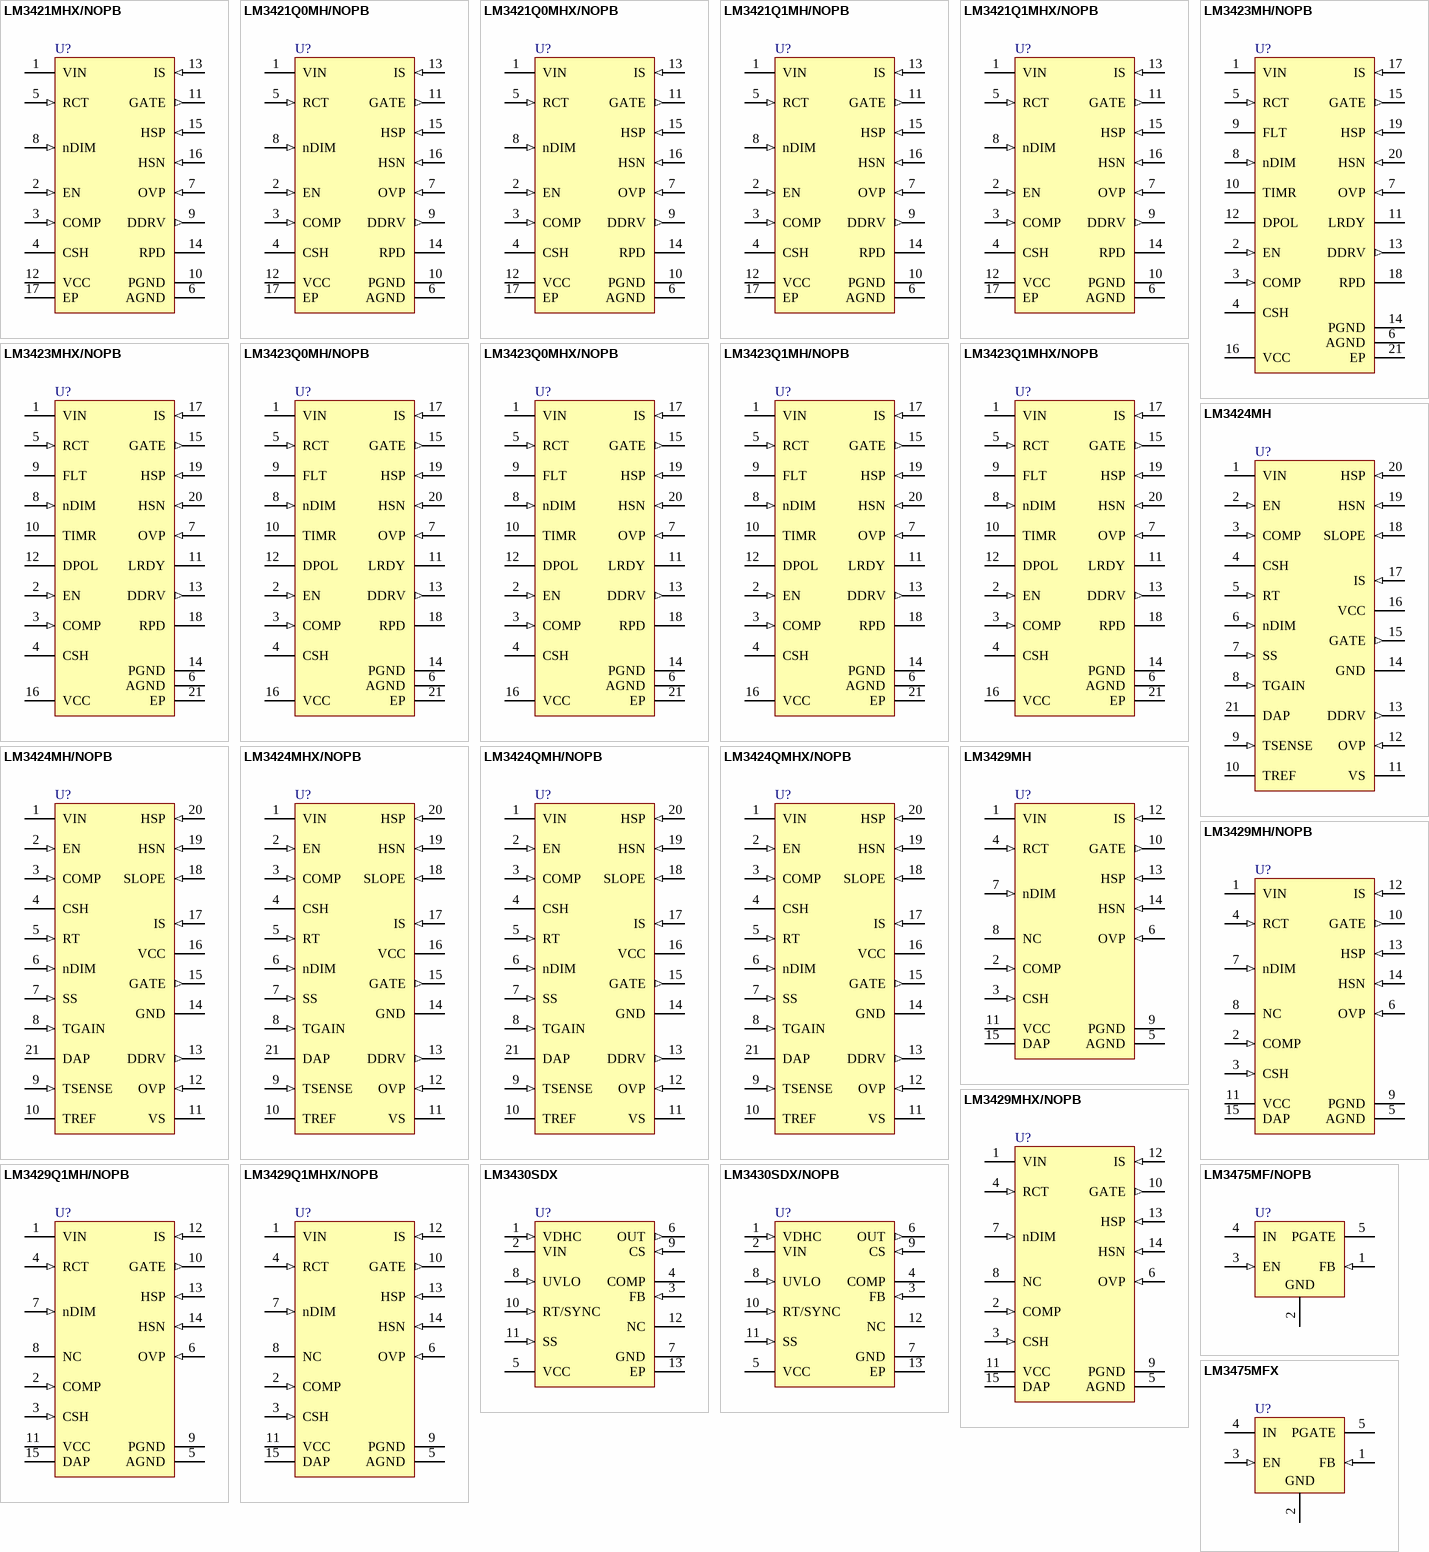
[diagram p34: symbols LM3421MHX/NOPB to LM3475MFX]

## LM3421MHX/NOPB
designator U?
N-Channel Controllers for Constant Current LED Drivers, 16-pin TSSOP-EP, Pb-Free; PartNumber: LM3421MHX/NOPB; Manufacturer: National Semiconductor; PackageTopMarking: NSUZXYTT*LM3421*MH; PowerWise: Y; CompType: Switcher; Published: 1-Mar-2010; DatasheetVersion: Jan-2010; PackageVersion: revA, Apr-2003; PackageReference: MXA16A; Publisher: Altium Limited; PackageDescription: Molded TSSOP, Jedec, Exposed Pad, 5.0 x 4.4 x 0.9mm Body,16 Lead, 0.65mm Pitch; Supplier 1: Digi-Key; Supplier Part Number 1: LM3421MHX-ND; RoHS: Y; PinCount: 16; Code_JEDEC: MO-153-ABT; ComponentLink1Description: LM3421 Datasheet; ComponentLink1URL: http://www.national.com/ds/LM/LM3421.pdf; ComponentLink2Description: LM3421 Web Page; ComponentLink2URL: http://www.national.com/pf/LM/LM3421.html; ComponentLink3Description: MXA16A Package Page; ComponentLink3URL: http://www.national.com/packaging/folders/mxa16a.html
footprint MXA16A_N (TSOP, 16-Leads, Body 5x4.4mm, Pitch 0.65mm, Exposed Pad, IPC Medium Density)
footprint MXA16A_L (TSOP, 16-Leads, Body 5x4.4mm, Pitch 0.65mm, Exposed Pad, IPC High Density)
footprint MXA16A_M (TSOP, 16-Leads, Body 5x4.4mm, Pitch 0.65mm, Exposed Pad, IPC Low Density)
pins: 1 VIN (power), 2 EN (in), 3 COMP (in), 4 CSH, 5 RCT (in), 6 AGND (power), 7 OVP (in), 8 nDIM (in), 9 DDRV (out), 10 PGND (power), 11 GATE (out), 12 VCC (power), 13 IS (in), 14 RPD (oc), 15 HSP (in), 16 HSN (in), 17 EP (power)

## LM3421Q0MH/NOPB
designator U?
N-Channel Controllers for Constant Current LED Drivers, 16-pin TSSOP-EP, Pb-Free; PartNumber: LM3421Q0MH/NOPB; Manufacturer: National Semiconductor; PackageTopMarking: NSUZXYTT*LM3421*Q0MH; PowerWise: Y; CompType: Switcher; Published: 1-Mar-2010; DatasheetVersion: Jan-2010; PackageVersion: revA, Apr-2003; PackageReference: MXA16A; Publisher: Altium Limited; PackageDescription: Molded TSSOP, Jedec, Exposed Pad, 5.0 x 4.4 x 0.9mm Body,16 Lead, 0.65mm Pitch; Supplier 1: Digi-Key; Supplier Part Number 1: LM3421Q0MH-ND; Supplier 2: Farnell; Supplier Part Number 2: 1793517; RoHS: Y; PinCount: 16; Code_JEDEC: MO-153-ABT; ComponentLink1Description: LM3421 Datasheet; ComponentLink1URL: http://www.national.com/ds/LM/LM3421.pdf; ComponentLink2Description: LM3421 Web Page; ComponentLink2URL: http://www.national.com/pf/LM/LM3421.html; ComponentLink3Description: MXA16A Package Page; ComponentLink3URL: http://www.national.com/packaging/folders/mxa16a.html
footprint MXA16A_N (TSOP, 16-Leads, Body 5x4.4mm, Pitch 0.65mm, Exposed Pad, IPC Medium Density)
footprint MXA16A_L (TSOP, 16-Leads, Body 5x4.4mm, Pitch 0.65mm, Exposed Pad, IPC High Density)
footprint MXA16A_M (TSOP, 16-Leads, Body 5x4.4mm, Pitch 0.65mm, Exposed Pad, IPC Low Density)
pins: 1 VIN (power), 2 EN (in), 3 COMP (in), 4 CSH, 5 RCT (in), 6 AGND (power), 7 OVP (in), 8 nDIM (in), 9 DDRV (out), 10 PGND (power), 11 GATE (out), 12 VCC (power), 13 IS (in), 14 RPD (oc), 15 HSP (in), 16 HSN (in), 17 EP (power)

## LM3421Q0MHX/NOPB
designator U?
N-Channel Controllers for Constant Current LED Drivers, 16-pin TSSOP-EP, Pb-Free; PartNumber: LM3421Q0MHX/NOPB; Manufacturer: National Semiconductor; PackageTopMarking: NSUZXYTT*LM3421*Q0MH; PowerWise: Y; CompType: Switcher; Published: 1-Mar-2010; DatasheetVersion: Jan-2010; PackageVersion: revA, Apr-2003; PackageReference: MXA16A; Publisher: Altium Limited; PackageDescription: Molded TSSOP, Jedec, Exposed Pad, 5.0 x 4.4 x 0.9mm Body,16 Lead, 0.65mm Pitch; Supplier 1: Digi-Key; Supplier Part Number 1: LM3421Q0MHX-ND; RoHS: Y; PinCount: 16; Code_JEDEC: MO-153-ABT; ComponentLink1Description: LM3421 Datasheet; ComponentLink1URL: http://www.national.com/ds/LM/LM3421.pdf; ComponentLink2Description: LM3421 Web Page; ComponentLink2URL: http://www.national.com/pf/LM/LM3421.html; ComponentLink3Description: MXA16A Package Page; ComponentLink3URL: http://www.national.com/packaging/folders/mxa16a.html
footprint MXA16A_N (TSOP, 16-Leads, Body 5x4.4mm, Pitch 0.65mm, Exposed Pad, IPC Medium Density)
footprint MXA16A_L (TSOP, 16-Leads, Body 5x4.4mm, Pitch 0.65mm, Exposed Pad, IPC High Density)
footprint MXA16A_M (TSOP, 16-Leads, Body 5x4.4mm, Pitch 0.65mm, Exposed Pad, IPC Low Density)
pins: 1 VIN (power), 2 EN (in), 3 COMP (in), 4 CSH, 5 RCT (in), 6 AGND (power), 7 OVP (in), 8 nDIM (in), 9 DDRV (out), 10 PGND (power), 11 GATE (out), 12 VCC (power), 13 IS (in), 14 RPD (oc), 15 HSP (in), 16 HSN (in), 17 EP (power)

## LM3421Q1MH/NOPB
designator U?
N-Channel Controllers for Constant Current LED Drivers, 16-pin TSSOP-EP, Pb-Free; PartNumber: LM3421Q1MH/NOPB; Manufacturer: National Semiconductor; PackageTopMarking: NSUZXYTT*LM3421*Q1MH; PowerWise: N; CompType: Switcher; Published: 1-Mar-2010; DatasheetVersion: Jan-2010; PackageVersion: revA, Apr-2003; PackageReference: MXA16A; Publisher: Altium Limited; PackageDescription: Molded TSSOP, Jedec, Exposed Pad, 5.0 x 4.4 x 0.9mm Body,16 Lead, 0.65mm Pitch; Supplier 1: Digi-Key; Supplier Part Number 1: LM3421Q1MH-ND; Supplier 2: Farnell; Supplier Part Number 2: 1793518; RoHS: Y; PinCount: 16; Code_JEDEC: MO-153-ABT; ComponentLink1Description: LM3421 Datasheet; ComponentLink1URL: http://www.national.com/ds/LM/LM3421.pdf; ComponentLink2Description: LM3421 Web Page; ComponentLink2URL: http://www.national.com/pf/LM/LM3421.html; ComponentLink3Description: MXA16A Package Page; ComponentLink3URL: http://www.national.com/packaging/folders/mxa16a.html
footprint MXA16A_N (TSOP, 16-Leads, Body 5x4.4mm, Pitch 0.65mm, Exposed Pad, IPC Medium Density)
footprint MXA16A_L (TSOP, 16-Leads, Body 5x4.4mm, Pitch 0.65mm, Exposed Pad, IPC High Density)
footprint MXA16A_M (TSOP, 16-Leads, Body 5x4.4mm, Pitch 0.65mm, Exposed Pad, IPC Low Density)
pins: 1 VIN (power), 2 EN (in), 3 COMP (in), 4 CSH, 5 RCT (in), 6 AGND (power), 7 OVP (in), 8 nDIM (in), 9 DDRV (out), 10 PGND (power), 11 GATE (out), 12 VCC (power), 13 IS (in), 14 RPD (oc), 15 HSP (in), 16 HSN (in), 17 EP (power)

## LM3421Q1MHX/NOPB
designator U?
N-Channel Controllers for Constant Current LED Drivers, 16-pin TSSOP-EP, Pb-Free; PartNumber: LM3421Q1MHX/NOPB; Manufacturer: National Semiconductor; PackageTopMarking: NSUZXYTT*LM3421*Q1MH; PowerWise: N; CompType: Switcher; Published: 1-Mar-2010; DatasheetVersion: Jan-2010; PackageVersion: revA, Apr-2003; PackageReference: MXA16A; Publisher: Altium Limited; PackageDescription: Molded TSSOP, Jedec, Exposed Pad, 5.0 x 4.4 x 0.9mm Body,16 Lead, 0.65mm Pitch; Supplier 1: Digi-Key; Supplier Part Number 1: LM3421Q1MHX-ND; RoHS: Y; PinCount: 16; Code_JEDEC: MO-153-ABT; ComponentLink1Description: LM3421 Datasheet; ComponentLink1URL: http://www.national.com/ds/LM/LM3421.pdf; ComponentLink2Description: LM3421 Web Page; ComponentLink2URL: http://www.national.com/pf/LM/LM3421.html; ComponentLink3Description: MXA16A Package Page; ComponentLink3URL: http://www.national.com/packaging/folders/mxa16a.html
footprint MXA16A_N (TSOP, 16-Leads, Body 5x4.4mm, Pitch 0.65mm, Exposed Pad, IPC Medium Density)
footprint MXA16A_L (TSOP, 16-Leads, Body 5x4.4mm, Pitch 0.65mm, Exposed Pad, IPC High Density)
footprint MXA16A_M (TSOP, 16-Leads, Body 5x4.4mm, Pitch 0.65mm, Exposed Pad, IPC Low Density)
pins: 1 VIN (power), 2 EN (in), 3 COMP (in), 4 CSH, 5 RCT (in), 6 AGND (power), 7 OVP (in), 8 nDIM (in), 9 DDRV (out), 10 PGND (power), 11 GATE (out), 12 VCC (power), 13 IS (in), 14 RPD (oc), 15 HSP (in), 16 HSN (in), 17 EP (power)

## LM3423MH/NOPB
designator U?
N-Channel Controllers for Constant Current LED Drivers, 20-pin TSSOP-EP, Pb-Free; PartNumber: LM3423MH/NOPB; Manufacturer: National Semiconductor; PackageTopMarking: NSUZXYTT*LM3423*MH; PowerWise: Y; CompType: Switcher; Published: 1-Mar-2010; DatasheetVersion: Jan-2010; PackageVersion: revC, Jul-2006; PackageReference: MXA20A; Publisher: Altium Limited; PackageDescription: Molded TSSOP, Jedec, 6.5 x 4.4 x 0.9mm Body, 20 Lead, 0.65mm Pitch, Exposed Pad; Supplier 1: Digi-Key; Supplier Part Number 1: LM3423MH-ND; Supplier 2: Farnell; Supplier Part Number 2: 1632002; RoHS: Y; PinCount: 20; Code_JEDEC: MO-153-ACT; ComponentLink1Description: LM3423 Datasheet; ComponentLink1URL: http://www.national.com/ds/LM/LM3423.pdf; ComponentLink2Description: LM3423 Web Page; ComponentLink2URL: http://www.national.com/pf/LM/LM3423.html; ComponentLink3Description: MXA20A Package Page; ComponentLink3URL: http://www.national.com/packaging/folders/mxa20a.html
footprint MXA20A_N (TSOP, 20-Leads, Body 6.5x4.4mm, Pitch 0.65mm, Exposed Pad, IPC Medium Density)
footprint MXA20A_L (TSOP, 20-Leads, Body 6.5x4.4mm, Pitch 0.65mm, Exposed Pad, IPC High Density)
footprint MXA20A_M (TSOP, 20-Leads, Body 6.5x4.4mm, Pitch 0.65mm, Exposed Pad, IPC Low Density)
pins: 1 VIN (power), 2 EN (in), 3 COMP (in), 4 CSH, 5 RCT (in), 6 AGND (power), 7 OVP (in), 8 nDIM (in), 9 FLT (oc), 10 TIMR, 11 LRDY (oc), 12 DPOL, 13 DDRV (out), 14 PGND (power), 15 GATE (out), 16 VCC (power), 17 IS (in), 18 RPD (oc), 19 HSP (in), 20 HSN (in), 21 EP (power)

## LM3423MHX/NOPB
designator U?
N-Channel Controllers for Constant Current LED Drivers, 20-pin TSSOP-EP, Pb-Free; PartNumber: LM3423MHX/NOPB; Manufacturer: National Semiconductor; PackageTopMarking: NSUZXYTT*LM3423*MH; PowerWise: Y; CompType: Switcher; Published: 1-Mar-2010; DatasheetVersion: Jan-2010; PackageVersion: revC, Jul-2006; PackageReference: MXA20A; Publisher: Altium Limited; PackageDescription: Molded TSSOP, Jedec, 6.5 x 4.4 x 0.9mm Body, 20 Lead, 0.65mm Pitch, Exposed Pad; Supplier 1: Digi-Key; Supplier Part Number 1: LM3423MHX-ND; RoHS: Y; PinCount: 20; Code_JEDEC: MO-153-ACT; ComponentLink1Description: LM3423 Datasheet; ComponentLink1URL: http://www.national.com/ds/LM/LM3423.pdf; ComponentLink2Description: LM3423 Web Page; ComponentLink2URL: http://www.national.com/pf/LM/LM3423.html; ComponentLink3Description: MXA20A Package Page; ComponentLink3URL: http://www.national.com/packaging/folders/mxa20a.html
footprint MXA20A_N (TSOP, 20-Leads, Body 6.5x4.4mm, Pitch 0.65mm, Exposed Pad, IPC Medium Density)
footprint MXA20A_L (TSOP, 20-Leads, Body 6.5x4.4mm, Pitch 0.65mm, Exposed Pad, IPC High Density)
footprint MXA20A_M (TSOP, 20-Leads, Body 6.5x4.4mm, Pitch 0.65mm, Exposed Pad, IPC Low Density)
pins: 1 VIN (power), 2 EN (in), 3 COMP (in), 4 CSH, 5 RCT (in), 6 AGND (power), 7 OVP (in), 8 nDIM (in), 9 FLT (oc), 10 TIMR, 11 LRDY (oc), 12 DPOL, 13 DDRV (out), 14 PGND (power), 15 GATE (out), 16 VCC (power), 17 IS (in), 18 RPD (oc), 19 HSP (in), 20 HSN (in), 21 EP (power)

## LM3423Q0MH/NOPB
designator U?
N-Channel Controllers for Constant Current LED Drivers, 20-pin TSSOP-EP, Pb-Free; PartNumber: LM3423Q0MH/NOPB; Manufacturer: National Semiconductor; PackageTopMarking: NSUZXYTT*LM3423*Q0MH; PowerWise: Y; CompType: Switcher; Published: 1-Mar-2010; DatasheetVersion: Jan-2010; PackageVersion: revC, Jul-2006; PackageReference: MXA20A; Publisher: Altium Limited; PackageDescription: Molded TSSOP, Jedec, 6.5 x 4.4 x 0.9mm Body, 20 Lead, 0.65mm Pitch, Exposed Pad; Supplier 1: Digi-Key; Supplier Part Number 1: LM3423Q0MH-ND; Supplier 2: Farnell; Supplier Part Number 2: 1793519; RoHS: Y; PinCount: 20; Code_JEDEC: MO-153-ACT; ComponentLink1Description: LM3423 Datasheet; ComponentLink1URL: http://www.national.com/ds/LM/LM3423.pdf; ComponentLink2Description: LM3423 Web Page; ComponentLink2URL: http://www.national.com/pf/LM/LM3423.html; ComponentLink3Description: MXA20A Package Page; ComponentLink3URL: http://www.national.com/packaging/folders/mxa20a.html
footprint MXA20A_N (TSOP, 20-Leads, Body 6.5x4.4mm, Pitch 0.65mm, Exposed Pad, IPC Medium Density)
footprint MXA20A_L (TSOP, 20-Leads, Body 6.5x4.4mm, Pitch 0.65mm, Exposed Pad, IPC High Density)
footprint MXA20A_M (TSOP, 20-Leads, Body 6.5x4.4mm, Pitch 0.65mm, Exposed Pad, IPC Low Density)
pins: 1 VIN (power), 2 EN (in), 3 COMP (in), 4 CSH, 5 RCT (in), 6 AGND (power), 7 OVP (in), 8 nDIM (in), 9 FLT (oc), 10 TIMR, 11 LRDY (oc), 12 DPOL, 13 DDRV (out), 14 PGND (power), 15 GATE (out), 16 VCC (power), 17 IS (in), 18 RPD (oc), 19 HSP (in), 20 HSN (in), 21 EP (power)

## LM3423Q0MHX/NOPB
designator U?
N-Channel Controllers for Constant Current LED Drivers, 20-pin TSSOP-EP, Pb-Free; PartNumber: LM3423Q0MHX/NOPB; Manufacturer: National Semiconductor; PackageTopMarking: NSUZXYTT*LM3423*Q0MH; PowerWise: Y; CompType: Switcher; Published: 1-Mar-2010; DatasheetVersion: Jan-2010; PackageVersion: revC, Jul-2006; PackageReference: MXA20A; Publisher: Altium Limited; PackageDescription: Molded TSSOP, Jedec, 6.5 x 4.4 x 0.9mm Body, 20 Lead, 0.65mm Pitch, Exposed Pad; Supplier 1: Digi-Key; Supplier Part Number 1: LM3423Q0MHX-ND; RoHS: Y; PinCount: 20; Code_JEDEC: MO-153-ACT; ComponentLink1Description: LM3423 Datasheet; ComponentLink1URL: http://www.national.com/ds/LM/LM3423.pdf; ComponentLink2Description: LM3423 Web Page; ComponentLink2URL: http://www.national.com/pf/LM/LM3423.html; ComponentLink3Description: MXA20A Package Page; ComponentLink3URL: http://www.national.com/packaging/folders/mxa20a.html
footprint MXA20A_N (TSOP, 20-Leads, Body 6.5x4.4mm, Pitch 0.65mm, Exposed Pad, IPC Medium Density)
footprint MXA20A_L (TSOP, 20-Leads, Body 6.5x4.4mm, Pitch 0.65mm, Exposed Pad, IPC High Density)
footprint MXA20A_M (TSOP, 20-Leads, Body 6.5x4.4mm, Pitch 0.65mm, Exposed Pad, IPC Low Density)
pins: 1 VIN (power), 2 EN (in), 3 COMP (in), 4 CSH, 5 RCT (in), 6 AGND (power), 7 OVP (in), 8 nDIM (in), 9 FLT (oc), 10 TIMR, 11 LRDY (oc), 12 DPOL, 13 DDRV (out), 14 PGND (power), 15 GATE (out), 16 VCC (power), 17 IS (in), 18 RPD (oc), 19 HSP (in), 20 HSN (in), 21 EP (power)

## LM3423Q1MH/NOPB
designator U?
N-Channel Controllers for Constant Current LED Drivers, 20-pin TSSOP-EP, Pb-Free; PartNumber: LM3423Q1MH/NOPB; Manufacturer: National Semiconductor; PackageTopMarking: NSUZXYTT*LM3423*Q1MH; PowerWise: N; CompType: Switcher; Published: 1-Mar-2010; DatasheetVersion: Jan-2010; PackageVersion: revC, Jul-2006; PackageReference: MXA20A; Publisher: Altium Limited; PackageDescription: Molded TSSOP, Jedec, 6.5 x 4.4 x 0.9mm Body, 20 Lead, 0.65mm Pitch, Exposed Pad; Supplier 1: Digi-Key; Supplier Part Number 1: LM3423Q1MH-ND; Supplier 2: Farnell; Supplier Part Number 2: 1793520; RoHS: Y; PinCount: 20; Code_JEDEC: MO-153-ACT; ComponentLink1Description: LM3423 Datasheet; ComponentLink1URL: http://www.national.com/ds/LM/LM3423.pdf; ComponentLink2Description: LM3423 Web Page; ComponentLink2URL: http://www.national.com/pf/LM/LM3423.html; ComponentLink3Description: MXA20A Package Page; ComponentLink3URL: http://www.national.com/packaging/folders/mxa20a.html
footprint MXA20A_N (TSOP, 20-Leads, Body 6.5x4.4mm, Pitch 0.65mm, Exposed Pad, IPC Medium Density)
footprint MXA20A_L (TSOP, 20-Leads, Body 6.5x4.4mm, Pitch 0.65mm, Exposed Pad, IPC High Density)
footprint MXA20A_M (TSOP, 20-Leads, Body 6.5x4.4mm, Pitch 0.65mm, Exposed Pad, IPC Low Density)
pins: 1 VIN (power), 2 EN (in), 3 COMP (in), 4 CSH, 5 RCT (in), 6 AGND (power), 7 OVP (in), 8 nDIM (in), 9 FLT (oc), 10 TIMR, 11 LRDY (oc), 12 DPOL, 13 DDRV (out), 14 PGND (power), 15 GATE (out), 16 VCC (power), 17 IS (in), 18 RPD (oc), 19 HSP (in), 20 HSN (in), 21 EP (power)

## LM3423Q1MHX/NOPB
designator U?
N-Channel Controllers for Constant Current LED Drivers, 20-pin TSSOP-EP, Pb-Free; PartNumber: LM3423Q1MHX/NOPB; Manufacturer: National Semiconductor; PackageTopMarking: NSUZXYTT*LM3423*Q1MH; PowerWise: N; CompType: Switcher; Published: 1-Mar-2010; DatasheetVersion: Jan-2010; PackageVersion: revC, Jul-2006; PackageReference: MXA20A; Publisher: Altium Limited; PackageDescription: Molded TSSOP, Jedec, 6.5 x 4.4 x 0.9mm Body, 20 Lead, 0.65mm Pitch, Exposed Pad; Supplier 1: Digi-Key; Supplier Part Number 1: LM3423Q1MHX-ND; RoHS: Y; PinCount: 20; Code_JEDEC: MO-153-ACT; ComponentLink1Description: LM3423 Datasheet; ComponentLink1URL: http://www.national.com/ds/LM/LM3423.pdf; ComponentLink2Description: LM3423 Web Page; ComponentLink2URL: http://www.national.com/pf/LM/LM3423.html; ComponentLink3Description: MXA20A Package Page; ComponentLink3URL: http://www.national.com/packaging/folders/mxa20a.html
footprint MXA20A_N (TSOP, 20-Leads, Body 6.5x4.4mm, Pitch 0.65mm, Exposed Pad, IPC Medium Density)
footprint MXA20A_L (TSOP, 20-Leads, Body 6.5x4.4mm, Pitch 0.65mm, Exposed Pad, IPC High Density)
footprint MXA20A_M (TSOP, 20-Leads, Body 6.5x4.4mm, Pitch 0.65mm, Exposed Pad, IPC Low Density)
pins: 1 VIN (power), 2 EN (in), 3 COMP (in), 4 CSH, 5 RCT (in), 6 AGND (power), 7 OVP (in), 8 nDIM (in), 9 FLT (oc), 10 TIMR, 11 LRDY (oc), 12 DPOL, 13 DDRV (out), 14 PGND (power), 15 GATE (out), 16 VCC (power), 17 IS (in), 18 RPD (oc), 19 HSP (in), 20 HSN (in), 21 EP (power)

## LM3424MH
designator U?
Constant Current N-Channel Controller with Thermal Foldback for Driving LEDs, 20-pin TSSOP-EP; PartNumber: LM3424MH; Manufacturer: National Semiconductor; PackageTopMarking: NSUZXYTT*LM3424*MH; PowerWise: Y; CompType: Switcher; Published: 9-Oct-2009; DatasheetVersion: Oct-2009; PackageVersion: revC, Jul-2006; PackageReference: MXA20A; Publisher: Altium Limited; PackageDescription: Molded TSSOP, Jedec, 6.5 x 4.4 x 0.9mm Body, 20 Lead, 0.65mm Pitch, Exposed Pad; Supplier 1: Farnell; Supplier Part Number 1: 1778583; RoHS: Y; PinCount: 20; Code_JEDEC: MO-153-ACT; ComponentLink1Description: LM3424 Datasheet; ComponentLink1URL: http://www.national.com/ds/LM/LM3424.pdf; ComponentLink2Description: LM3424 Web Page; ComponentLink2URL: http://www.national.com/pf/LM/LM3424.html; ComponentLink3Description: MXA20A Package Page; ComponentLink3URL: http://www.national.com/packaging/folders/mxa20a.html
footprint MXA20A_N (TSOP, 20-Leads, Body 6.5x4.4mm, Pitch 0.65mm, Exposed Pad, IPC Medium Density)
footprint MXA20A_L (TSOP, 20-Leads, Body 6.5x4.4mm, Pitch 0.65mm, Exposed Pad, IPC High Density)
footprint MXA20A_M (TSOP, 20-Leads, Body 6.5x4.4mm, Pitch 0.65mm, Exposed Pad, IPC Low Density)
pins: 1 VIN (power), 2 EN (in), 3 COMP (in), 4 CSH, 5 RT (in), 6 nDIM (in), 7 SS (in), 8 TGAIN (in), 9 TSENSE (in), 10 TREF, 11 VS (power), 12 OVP (in), 13 DDRV (out), 14 GND (power), 15 GATE (out), 16 VCC (power), 17 IS (in), 18 SLOPE (in), 19 HSN (in), 20 HSP (in), 21 DAP (power)

## LM3424MH/NOPB
designator U?
Constant Current N-Channel Controller with Thermal Foldback for Driving LEDs, 20-pin TSSOP-EP, Pb-Free; PartNumber: LM3424MH/NOPB; Manufacturer: National Semiconductor; PackageTopMarking: NSUZXYTT*LM3424*MH; PowerWise: Y; CompType: Switcher; Published: 1-Mar-2010; DatasheetVersion: Oct-2009; PackageVersion: revC, Jul-2006; PackageReference: MXA20A; Publisher: Altium Limited; PackageDescription: Molded TSSOP, Jedec, 6.5 x 4.4 x 0.9mm Body, 20 Lead, 0.65mm Pitch, Exposed Pad; Supplier 1: Digi-Key; Supplier Part Number 1: LM3424MH-ND; Supplier 2: Farnell; Supplier Part Number 2: 1769566; RoHS: Y; PinCount: 20; Code_JEDEC: MO-153-ACT; ComponentLink1Description: LM3424 Datasheet; ComponentLink1URL: http://www.national.com/ds/LM/LM3424.pdf; ComponentLink2Description: LM3424 Web Page; ComponentLink2URL: http://www.national.com/pf/LM/LM3424.html; ComponentLink3Description: MXA20A Package Page; ComponentLink3URL: http://www.national.com/packaging/folders/mxa20a.html
footprint MXA20A_N (TSOP, 20-Leads, Body 6.5x4.4mm, Pitch 0.65mm, Exposed Pad, IPC Medium Density)
footprint MXA20A_L (TSOP, 20-Leads, Body 6.5x4.4mm, Pitch 0.65mm, Exposed Pad, IPC High Density)
footprint MXA20A_M (TSOP, 20-Leads, Body 6.5x4.4mm, Pitch 0.65mm, Exposed Pad, IPC Low Density)
pins: 1 VIN (power), 2 EN (in), 3 COMP (in), 4 CSH, 5 RT (in), 6 nDIM (in), 7 SS (in), 8 TGAIN (in), 9 TSENSE (in), 10 TREF, 11 VS (power), 12 OVP (in), 13 DDRV (out), 14 GND (power), 15 GATE (out), 16 VCC (power), 17 IS (in), 18 SLOPE (in), 19 HSN (in), 20 HSP (in), 21 DAP (power)